# EAGLE library part BMP581 (library 2026-01-09_07-22-27_Library)
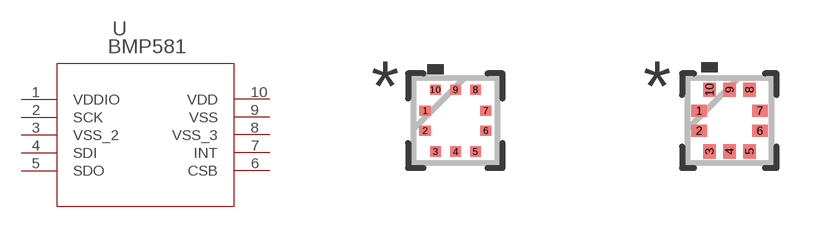
[diagram p0: symbol with the pads of QFN10_BMP581_BOS; footprints QFN10_BMP581_BOS, QFN10_BMP581_BOS-M]

Designator prefix U

## BMP581QFN10_BMP581_BOS (Copyright: Copyright (C) 2026 Ultra Librarian. All rights reserved.; Manufacturer_Name: Bosch Sensortec; Manufacturer_Part_Number: BMP581)  [QFN10_BMP581_BOS]
1  VDDIO  pwr
2  SCK  pas
3  VSS_2  pas
4  SDI  pas
5  SDO  pas
6  CSB  pas
7  INT  in
8  VSS_3  pas
9  VSS  pas
10  VDD  pwr

## BMP581QFN10_BMP581_BOS-M (Copyright: Copyright (C) 2026 Ultra Librarian. All rights reserved.; Manufacturer_Name: Bosch Sensortec; Manufacturer_Part_Number: BMP581)  [QFN10_BMP581_BOS-M]
Pads as for QFN10_BMP581_BOS

## BMP581QFN10_BMP581_BOS-L (Copyright: Copyright (C) 2026 Ultra Librarian. All rights reserved.; Manufacturer_Name: Bosch Sensortec; Manufacturer_Part_Number: BMP581)  [QFN10_BMP581_BOS-L]
Pads as for QFN10_BMP581_BOS

## Footprint QFN10_BMP581_BOS (pad centres in mm)
smd 0.279 x 0.254: 1 -0.76,0.25; 2 -0.76,-0.25; 6 0.76,-0.25; 7 0.76,0.25
smd 0.254 x 0.254: 3 -0.5,-0.773; 4 0,-0.773; 5 0.5,-0.773; 8 0.5,0.773; 9 0,0.773; 10 -0.5,0.773

## Footprint QFN10_BMP581_BOS-M (pad centres in mm)
smd 0.381 x 0.305: 1 -0.76,0.25; 2 -0.76,-0.25; 6 0.76,-0.25; 7 0.76,0.25
smd 0.305 x 0.356: 3 -0.5,-0.773; 4 0,-0.773; 5 0.5,-0.773; 8 0.5,0.773; 9 0,0.773; 10 -0.5,0.773

## Footprint QFN10_BMP581_BOS-L (pad centres in mm)
smd 0.178 x 0.203: 1 -0.76,0.25; 2 -0.76,-0.25; 6 0.76,-0.25; 7 0.76,0.25
smd 0.203 x 0.152: 3 -0.5,-0.773; 4 0,-0.773; 5 0.5,-0.773; 8 0.5,0.773; 9 0,0.773; 10 -0.5,0.773